# EAGLE library part LT1074CT7 (library Mine)
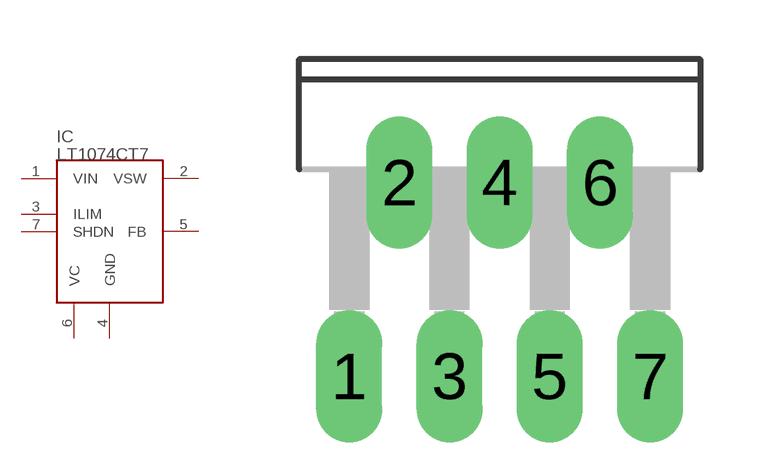
[diagram p12: symbol with the pads of TO220-7; footprint TO220-7]

Designator prefix IC

## LT1074CT7  [TO220-7]
1  VIN  in
2  VSW  out
3  ILIM  in
4  GND  pwr
5  FB  in
6  VC  out
7  SHDN  in

## Footprint TO220-7 (pad centres in mm)
Molded Package
drill 1.118 pad 1.626 long: 1 -3.81,-8.036; 2 -2.54,-3.126; 3 -1.27,-8.036; 4 0,-3.126; 5 1.27,-8.036; 6 2.54,-3.126; 7 3.81,-8.036